# Altium footprint library IHLM2525CZERR68M01.PcbLib: 3 footprints
Each footprint in its own frame and in the unit in brackets; x right, y up, seen from the top. Pads: shape width x height; smd on the part's side, far side on the other; paste and mask are expansions set on the pad; w line width, h text height; cw(c..) or ccw(c..) is an arc to the next point about the centre after c.
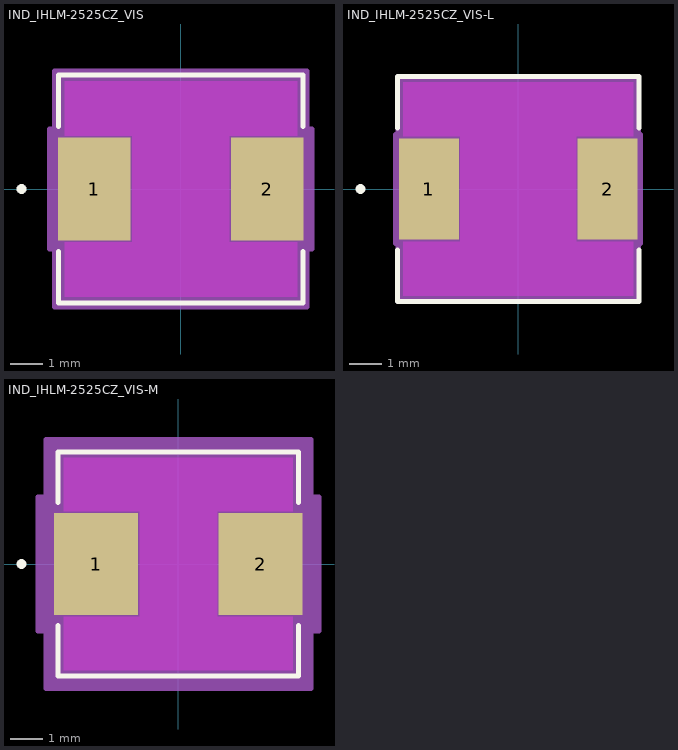
[diagram p0: the footprints below, top view; thin cyan lines are the x and y axes]

## IND_IHLM-2525CZ_VIS [mil]
pads (2):
  rect 88x125 smd paste+0 mask+0: 1(-104.5,0) 2(104.5,0)
Top Layer keep-out:
  region: -58.5,-64.5 -58.5,64.5 58.5,64.5 58.5,-64.5
  region: -140.5,64.5 -140.5,130.5 140.5,130.5 140.5,64.5
  region: -140.5,-130.5 -140.5,-64.5 140.5,-64.5 140.5,-130.5
Top Overlay:
  circle w6: c-192.5,0 r3
  lines w6: -147.5,-75.6 -147.5,-137.5 147.5,-137.5 147.5,-75.6 ; -147.5,75.6 -147.5,137.5 147.5,137.5 147.5,75.6
Keep-Out Layer:
  region: -58.5,-64.5 -58.5,64.5 58.5,64.5 58.5,-64.5
Mechanical 13:
  circle w0: c-122.5,0 r3
  lines w1: -142.5,-132.5 142.5,-132.5 142.5,132.5 -142.5,132.5 -142.5,-132.5
Mechanical 15:
  region: -152.5,-72.5 -158.5,-72.5 -158.5,72.5 -152.5,72.5 -152.5,142.5 152.5,142.5 152.5,72.5 158.5,72.5 158.5,-72.5 152.5,-72.5 152.5,-142.5 -152.5,-142.5
  lines w6: -158.5,-72.5 -158.5,72.5 -152.5,72.5 -152.5,142.5 152.5,142.5 152.5,72.5 158.5,72.5 158.5,-72.5 152.5,-72.5 152.5,-142.5 -152.5,-142.5 -152.5,-72.5 -158.5,-72.5
3D body "IND_IHLM-2525CZ_VIS.step": height 120, standoff 0, extent -142.52,-132.52 142.52,132.52

## IND_IHLM-2525CZ_VIS-L [mil]
pads (2):
  rect 73x123 smd paste+0 mask+0: 1(-109,0) 2(109,0)
Top Layer keep-out:
  region: -70.5,-64.5 -70.5,64.5 70.5,64.5 70.5,-64.5
  region: -140.5,64.5 -140.5,130.5 140.5,130.5 140.5,64.5
  region: -140.5,-130.5 -140.5,-64.5 140.5,-64.5 140.5,-130.5
Top Overlay:
  circle w6: c-192.5,0 r3
  lines w6: -147.5,-74.45 -147.5,-137.5 147.5,-137.5 147.5,-74.45 ; -147.5,74.45 -147.5,137.5 147.5,137.5 147.5,74.45
Keep-Out Layer:
  region: -70.5,-64.5 -70.5,64.5 70.5,64.5 70.5,-64.5
Mechanical 13:
  circle w0: c-122.5,0 r3
  lines w1: -142.5,-132.5 142.5,-132.5 142.5,132.5 -142.5,132.5 -142.5,-132.5
Mechanical 15:
  region: -146.5,-66.5 -149.5,-66.5 -149.5,66.5 -146.5,66.5 -146.5,136.5 146.5,136.5 146.5,66.5 149.5,66.5 149.5,-66.5 146.5,-66.5 146.5,-136.5 -146.5,-136.5
  lines w6: -149.5,-66.5 -149.5,66.5 -146.5,66.5 -146.5,136.5 146.5,136.5 146.5,66.5 149.5,66.5 149.5,-66.5 146.5,-66.5 146.5,-136.5 -146.5,-136.5 -146.5,-66.5 -149.5,-66.5
3D body "IND_IHLM-2525CZ_VIS.step": height 120, standoff 0, extent -142.52,-132.52 142.52,132.52

## IND_IHLM-2525CZ_VIS-M [mil]
pads (2):
  rect 103x125 smd paste+0 mask+0: 1(-101,0) 2(101,0)
Top Layer keep-out:
  region: -47.5,-64.5 -47.5,64.5 47.5,64.5 47.5,-64.5
  region: -140.5,64.5 -140.5,130.5 140.5,130.5 140.5,64.5
  region: -140.5,-130.5 -140.5,-64.5 140.5,-64.5 140.5,-130.5
Top Overlay:
  circle w6: c-192.5,0 r3
  lines w6: -147.5,-75.6 -147.5,-137.5 147.5,-137.5 147.5,-75.6 ; -147.5,75.6 -147.5,137.5 147.5,137.5 147.5,75.6
Keep-Out Layer:
  region: -47.5,-64.5 -47.5,64.5 47.5,64.5 47.5,-64.5
Mechanical 13:
  circle w0: c-122.5,0 r3
  lines w1: -142.5,-132.5 142.5,-132.5 142.5,132.5 -142.5,132.5 -142.5,-132.5
Mechanical 15:
  region: -162.5,-82.5 -172.5,-82.5 -172.5,82.5 -162.5,82.5 -162.5,152.5 162.5,152.5 162.5,82.5 172.5,82.5 172.5,-82.5 162.5,-82.5 162.5,-152.5 -162.5,-152.5
  lines w6: -172.5,-82.5 -172.5,82.5 -162.5,82.5 -162.5,152.5 162.5,152.5 162.5,82.5 172.5,82.5 172.5,-82.5 162.5,-82.5 162.5,-152.5 -162.5,-152.5 -162.5,-82.5 -172.5,-82.5
3D body "IND_IHLM-2525CZ_VIS.step": height 120, standoff 0, extent -142.52,-132.52 142.52,132.52